# EAGLE library part 686308124422 (library Wuerth_Elektronik_eiCan_03_ZIF_Connectors_&_Flat_Flexible_Cable)
WR-FPC-1.00mm SMT ZIF Vertical Type A,8 pins
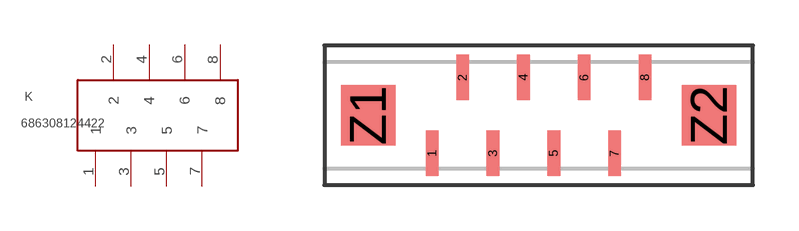
[diagram p124: symbol with the pads of 686308124422; footprint 686308124422]

Designator prefix K

## 686308124422  [686308124422]
1  1
2  2
3  3
4  4
5  5
6  6
7  7
8  8

## Footprint 686308124422 (pad centres in mm)
WR-FPC-1.00mm SMT ZIF Vertical Type A,8 pins
smd 0.42 x 1.5: 1 -2.77,-1.25; 2 -1.77,1.25; 3 -0.77,-1.25; 4 0.23,1.25; 5 1.23,-1.25; 6 2.23,1.25; 7 3.23,-1.25; 8 4.23,1.25
smd 1.8 x 2: Z1 -4.88,0; Z2 6.34,0